# EAGLE library part SI1145 (library GRITSBot)
SI1145 Digital UV Index / IR / Visible Light Sensor http://www.adafruit.com/products/1777 http://www.digikey.com/product-detail/en/SI1145-A10-GMR/336-2622-1-ND/4515975
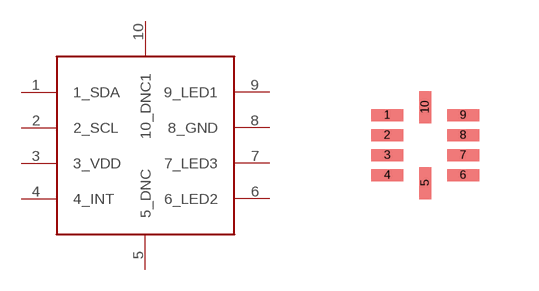
[diagram p18: symbol with the pads of 10-WFQFN; footprint 10-WFQFN]

Designator prefix -

## SI1145  [10-WFQFN]
1  1_SDA
2  2_SCL
3  3_VDD
4  4_INT
5  5_DNC
6  6_LED2
7  7_LED3
8  8_GND
9  9_LED1
10  10_DNC1

## Footprint 10-WFQFN (pad centres in mm)
smd 0.8 x 0.3: 1 -0.939,0.738; 2 -0.939,0.238; 3 -0.939,-0.262; 4 -0.939,-0.762; 6 0.961,-0.762; 7 0.961,-0.262; 8 0.961,0.238; 9 0.961,0.738
smd 0.3 x 0.8: 5 0.011,-0.962; 10 0.011,0.938